# Altium schematic symbol library микроконтроллеры (сетка в мм).SchLib: 3 symbols
Pins are listed as number, name and electrical type; pins without a type are passive.

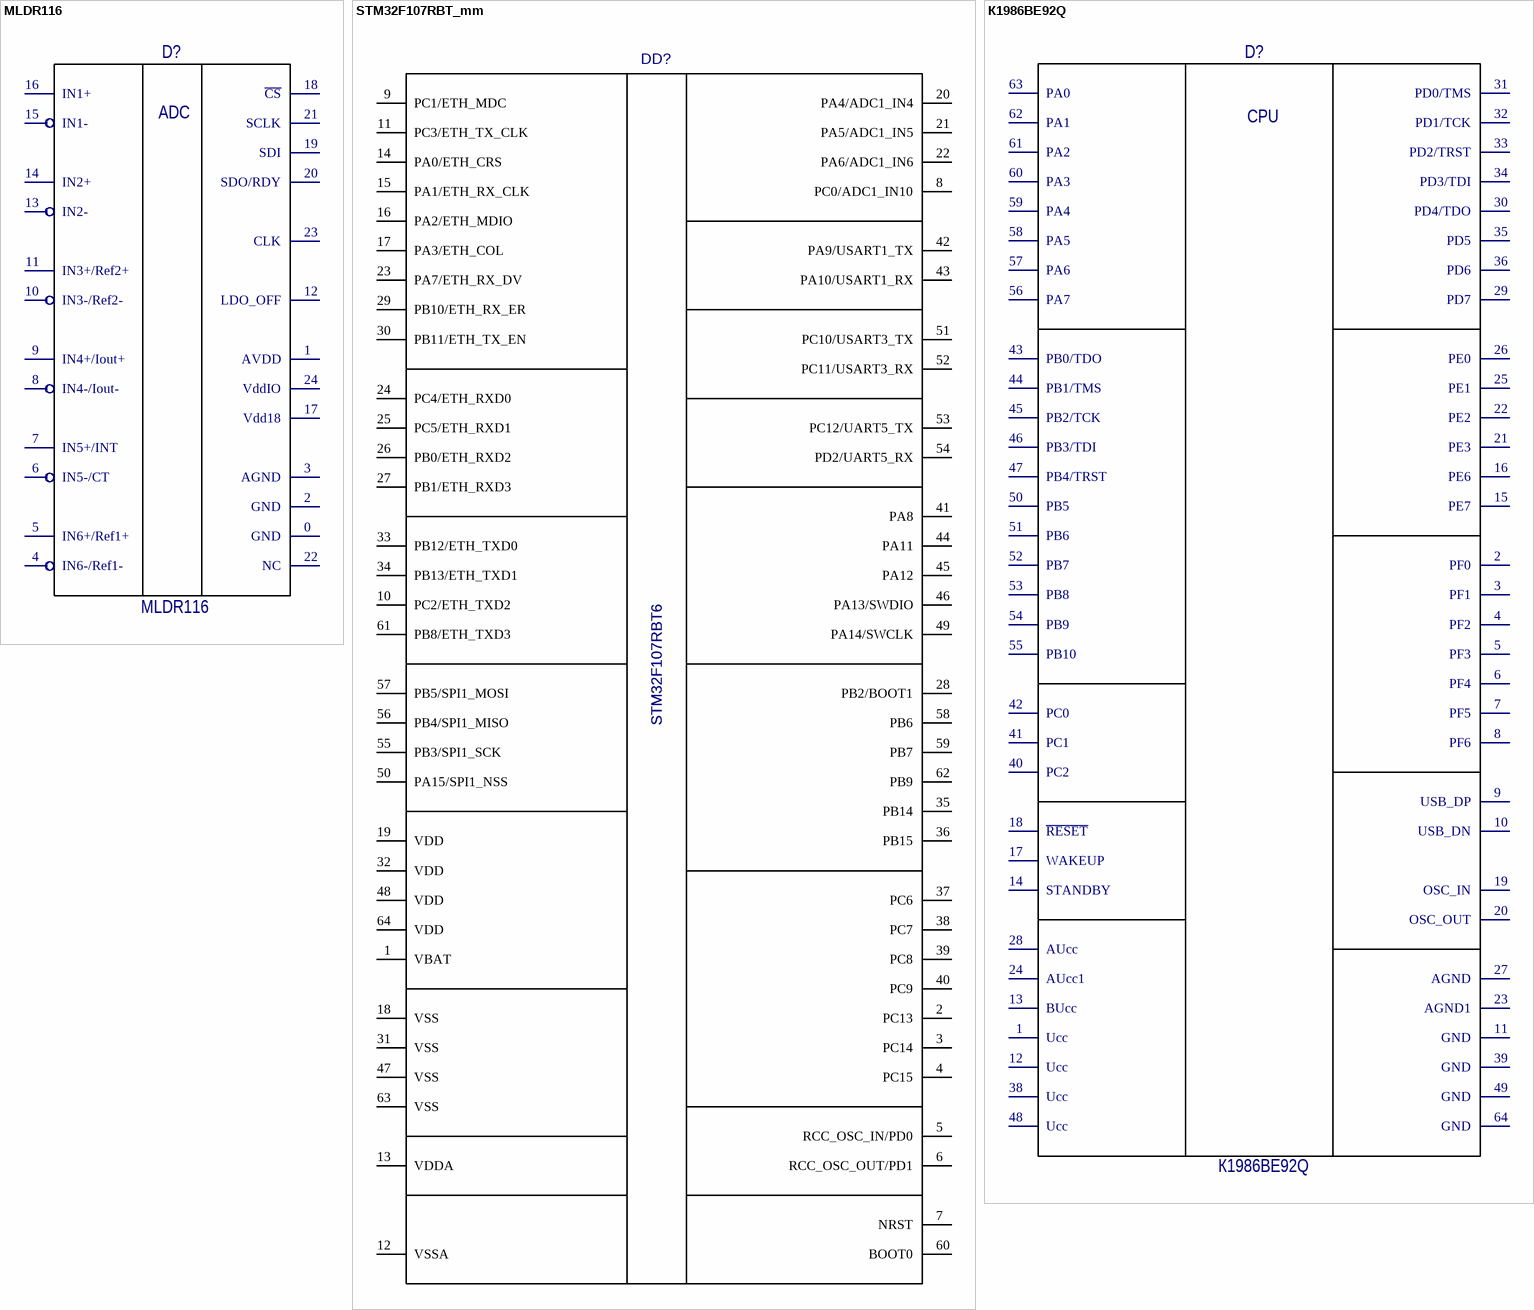
[diagram p0: symbols MLDR116 to К1986ВЕ92Q]

## MLDR116
designator D?
Value: *; ManufacturerPartNmber: MLDR116; Manufacturer: *
footprint MK5147.24-1
footprint SOC_24CHC10Y02
footprint SOC_Y-RED-QG0028-MI-0-H-H
pins: 0 GND, 1 AVDD, 2 GND, 3 AGND, 4 IN6-/Ref1-, 5 IN6+/Ref1+, 6 IN5-/CT, 7 IN5+/INT, 8 IN4-/Iout-, 9 IN4+/Iout+, 10 IN3-/Ref2-, 11 IN3+/Ref2+, 12 LDO_OFF, 13 IN2-, 14 IN2+, 15 IN1-, 16 IN1+, 17 Vdd18, 18 ~{CS}, 19 SDI, 20 SDO/RDY, 21 SCLK, 22 NC, 23 CLK, 24 VddIO
text: ADC

## STM32F107RBT_mm
designator DD?, comment STM32F107RBT6
Value: STM32F107RBT6
footprint LQFP64
pins: 1 VBAT, 2 PC13, 3 PC14, 4 PC15, 5 RCC_OSC_IN/PD0, 6 RCC_OSC_OUT/PD1, 7 NRST, 8 PC0/ADC1_IN10, 9 PC1/ETH_MDC, 10 PC2/ETH_TXD2, 11 PC3/ETH_TX_CLK, 12 VSSA, 13 VDDA, 14 PA0/ETH_CRS, 15 PA1/ETH_RX_CLK, 16 PA2/ETH_MDIO, 17 PA3/ETH_COL, 18 VSS, 19 VDD, 20 PA4/ADC1_IN4, 21 PA5/ADC1_IN5, 22 PA6/ADC1_IN6, 23 PA7/ETH_RX_DV, 24 PC4/ETH_RXD0, 25 PC5/ETH_RXD1, 26 PB0/ETH_RXD2, 27 PB1/ETH_RXD3, 28 PB2/BOOT1, 29 PB10/ETH_RX_ER, 30 PB11/ETH_TX_EN, 31 VSS, 32 VDD, 33 PB12/ETH_TXD0, 34 PB13/ETH_TXD1, 35 PB14, 36 PB15, 37 PC6, 38 PC7, 39 PC8, 40 PC9, 41 PA8, 42 PA9/USART1_TX, 43 PA10/USART1_RX, 44 PA11, 45 PA12, 46 PA13/SWDIO, 47 VSS, 48 VDD, 49 PA14/SWCLK, 50 PA15/SPI1_NSS, 51 PC10/USART3_TX, 52 PC11/USART3_RX, 53 PC12/UART5_TX, 54 PD2/UART5_RX, 55 PB3/SPI1_SCK, 56 PB4/SPI1_MISO, 57 PB5/SPI1_MOSI, 58 PB6, 59 PB7, 60 BOOT0, 61 PB8/ETH_TXD3, 62 PB9, 63 VSS, 64 VDD

## К1986ВЕ92Q
designator D?
Cell: *; Manufacturer: *; ManufacturerPartNumber: К1986ВЕ92Q; Value: *; Tolerance: *; Current: *; Voltage: *; Power: *
footprint LQFP64
pins: 1 Ucc, 2 PF0, 3 PF1, 4 PF2, 5 PF3, 6 PF4, 7 PF5, 8 PF6, 9 USB_DP, 10 USB_DN, 11 GND, 12 Ucc, 13 BUcc, 14 STANDBY, 15 PE7, 16 PE6, 17 WAKEUP, 18 ~{RESET}, 19 OSC_IN, 20 OSC_OUT, 21 PE3, 22 PE2, 23 AGND1, 24 AUcc1, 25 PE1, 26 PE0, 27 AGND, 28 AUcc, 29 PD7, 30 PD4/TDO, 31 PD0/TMS, 32 PD1/TCK, 33 PD2/TRST, 34 PD3/TDI, 35 PD5, 36 PD6, 38 Ucc, 39 GND, 40 PC2, 41 PC1, 42 PC0, 43 PB0/TDO, 44 PB1/TMS, 45 PB2/TCK, 46 PB3/TDI, 47 PB4/TRST, 48 Ucc, 49 GND, 50 PB5, 51 PB6, 52 PB7, 53 PB8, 54 PB9, 55 PB10, 56 PA7, 57 PA6, 58 PA5, 59 PA4, 60 PA3, 61 PA2, 62 PA1, 63 PA0, 64 GND
text: CPU